# EAGLE library part MICRO-SD-CARD (library KVB-connectors)
MicroSD footprint- NOT a socket for a MicroSD card!
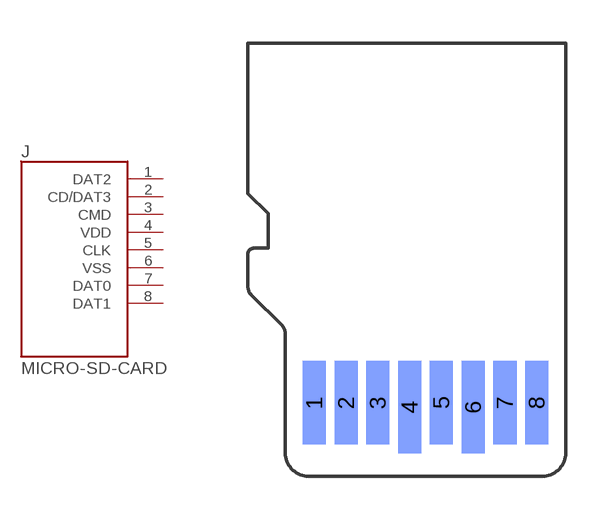
[diagram p17: symbol with the pads of MICRO-SD-CARD; footprint MICRO-SD-CARD]

Designator prefix J

## MICRO-SD-CARD  [MICRO-SD-CARD]
1  DAT2
2  CD/DAT3
3  CMD
4  VDD
5  CLK
6  VSS
7  DAT0
8  DAT1

## Footprint MICRO-SD-CARD (pad centres in mm)
smd 0.8 x 2.9 bottom: 1 -3.2,-4.95; 2 -2.1,-4.95; 3 -1,-4.95; 5 1.2,-4.95; 7 3.4,-4.95; 8 4.5,-4.95
smd 0.8 x 3.2 bottom: 4 0.1,-5.1; 6 2.3,-5.1